# Altium footprint library RFU02VSM6S.PcbLib: 1 footprints
Each footprint in its own frame and in the unit in brackets; x right, y up, seen from the top. Pads: shape width x height; smd on the part's side, far side on the other; paste and mask are expansions set on the pad; w line width, h text height; cw(c..) or ccw(c..) is an arc to the next point about the centre after c.
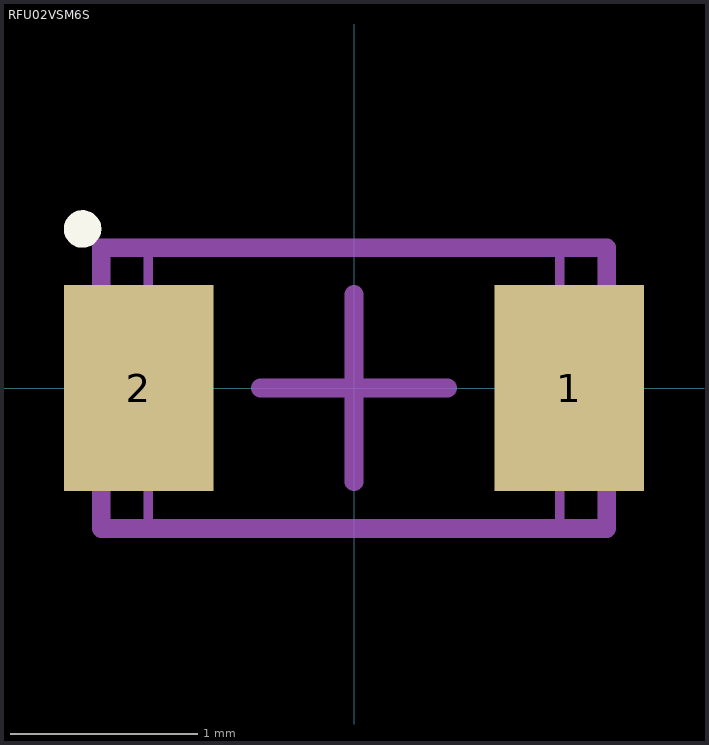
[diagram p0: the footprint, top view; thin cyan lines are the x and y axes]

## RFU02VSM6S [mm] "SODFL, 2-Leads, Body 1.40x2.50mm, IPC Medium Density"
height 0.8
pads (2):
  rect 0.8x1.1 smd: 1(1.15,0) 2(-1.15,0)
Top Overlay:
  circle w0.1: c-1.45,0.85 r0.05
Mechanical 13:
  lines w0.1: -1.35,-0.75 1.35,-0.75 1.35,0.75 -1.35,0.75 -1.35,-0.75
Mechanical 15:
  lines w0.05: -1.1,-0.75 1.1,-0.75 1.1,0.75 -1.1,0.75 -1.1,-0.75
  lines w0.1: -0.5,0 0.5,0 ; 0,-0.5 0,0.5
3D body "SODFL250X80-2N.step": height 0.8, standoff 0, extent -1.25,-0.75 1.25,0.75